# Altium footprint library BASIC Library.PCBLIB: 464 footprints (part 10 of 30)
Each footprint in its own frame and in the unit in brackets; x right, y up, seen from the top. Pads: shape width x height; smd on the part's side, far side on the other; paste and mask are expansions set on the pad; w line width, h text height; cw(c..) or ccw(c..) is an arc to the next point about the centre after c.
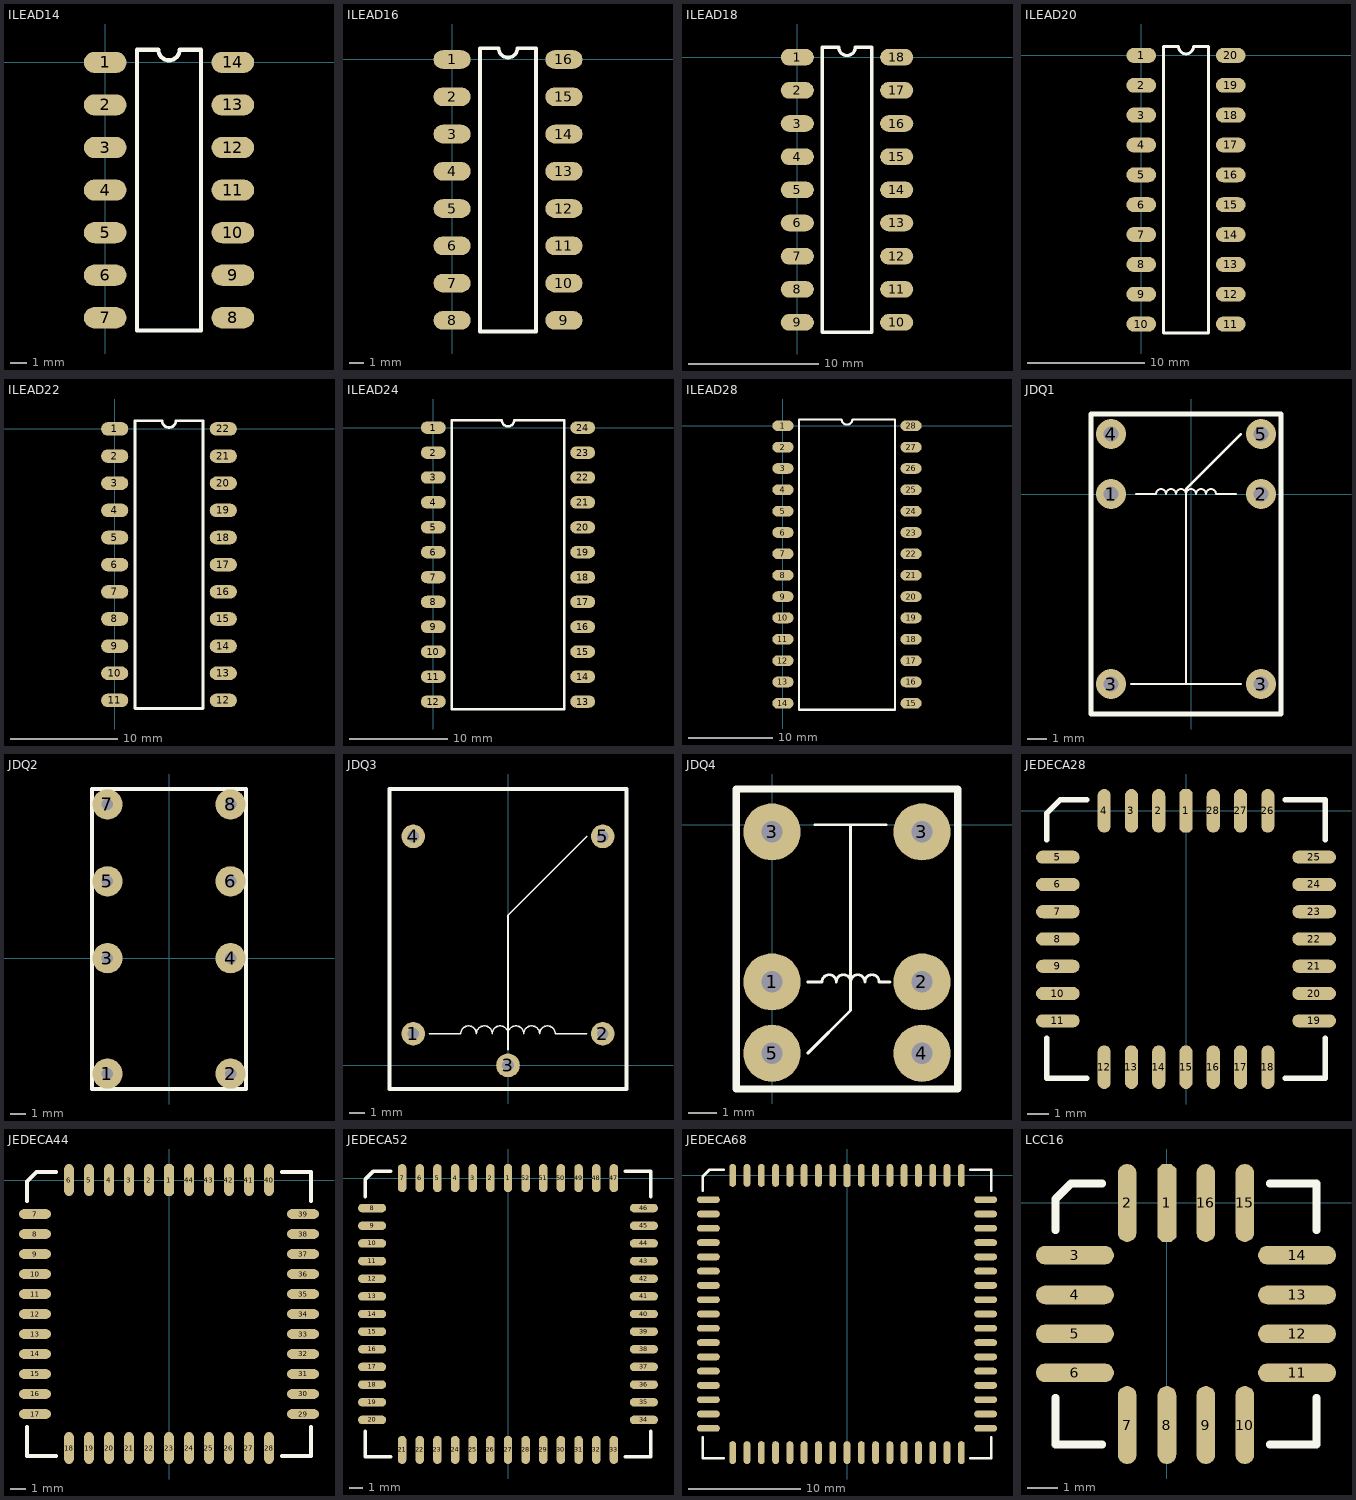
[diagram p9: the footprints below, top view; thin cyan lines are the x and y axes]

## ILEAD14 [mil]
pads (14):
  oval 100x50 smd: 1(0,0) 2(0,-100) 3(0,-200) 4(0,-300) 5(0,-400) 6(0,-500) 7(0,-600) 8(300,-600) 9(300,-500) 10(300,-400) 11(300,-300) 12(300,-200) 13(300,-100) 14(300,0)
TopOverlay:
  lines w10: 75,-630 225,-630 225,30 175,30 cw(c150,30) 125,30 75,30 75,-630

## ILEAD16 [mil]
pads (16):
  oval 100x50 smd: 1(0,0) 2(0,-100) 3(0,-200) 4(0,-300) 5(0,-400) 6(0,-500) 7(0,-600) 8(0,-700) 9(300,-700) 10(300,-600) 11(300,-500) 12(300,-400) 13(300,-300) 14(300,-200) 15(300,-100) 16(300,0)
TopOverlay:
  lines w10: 75,-730 75,30 125,30 ccw(c150,30) 175,30 225,30 225,-730 75,-730

## ILEAD18 [mil]
pads (18):
  oval 100x50 smd: 1(0,0) 2(0,-100) 3(0,-200) 4(0,-300) 5(0,-400) 6(0,-500) 7(0,-600) 8(0,-700) 9(0,-800) 10(300,-800) 11(300,-700) 12(300,-600) 13(300,-500) 14(300,-400) 15(300,-300) 16(300,-200) 17(300,-100) 18(300,0)
TopOverlay:
  lines w10: 75,-830 75,30 125,30 ccw(c150,30) 175,30 225,30 225,-830 75,-830

## ILEAD20 [mil]
pads (20):
  oval 100x50 smd: 1(0,0) 2(0,-100) 3(0,-200) 4(0,-300) 5(0,-400) 6(0,-500) 7(0,-600) 8(0,-700) 9(0,-800) 10(0,-900) 11(300,-900) 12(300,-800) 13(300,-700) 14(300,-600) 15(300,-500) 16(300,-400) 17(300,-300) 18(300,-200) 19(300,-100) 20(300,0)
TopOverlay:
  lines w10: 75,-930 225,-930 225,30 175,30 cw(c150,30) 125,30 75,30 75,-930

## ILEAD22 [mil]
pads (22):
  oval 100x50 smd: 1(0,0) 2(0,-100) 3(0,-200) 4(0,-300) 5(0,-400) 6(0,-500) 7(0,-600) 8(0,-700) 9(0,-800) 10(0,-900) 11(0,-1000) 12(400,-1000) 13(400,-900) 14(400,-800) 15(400,-700) 16(400,-600) 17(400,-500) 18(400,-400) 19(400,-300) 20(400,-200) 21(400,-100) 22(400,0)
TopOverlay:
  lines w10: 75,-1030 325,-1030 325,30 225,30 cw(c200,30) 175,30 75,30 75,-1030

## ILEAD24 [mil]
pads (24):
  oval 100x50 smd: 1(0,0) 2(0,-100) 3(0,-200) 4(0,-300) 5(0,-400) 6(0,-500) 7(0,-600) 8(0,-700) 9(0,-800) 10(0,-900) 11(0,-1000) 12(0,-1100) 13(600,-1100) 14(600,-1000) 15(600,-900) 16(600,-800) 17(600,-700) 18(600,-600) 19(600,-500) 20(600,-400) 21(600,-300) 22(600,-200) 23(600,-100) 24(600,0)
TopOverlay:
  lines w10: 75,-1130 525,-1130 525,30 325,30 cw(c300,30) 275,30 75,30 75,-1130

## ILEAD28 [mil]
pads (28):
  oval 100x50 smd: 1(0,0) 2(0,-100) 3(0,-200) 4(0,-300) 5(0,-400) 6(0,-500) 7(0,-600) 8(0,-700) 9(0,-800) 10(0,-900) 11(0,-1000) 12(0,-1100) 13(0,-1200) 14(0,-1300) 15(600,-1300) 16(600,-1200) 17(600,-1100) 18(600,-1000) 19(600,-900) 20(600,-800) 21(600,-700) 22(600,-600) 23(600,-500) 24(600,-400) 25(600,-300) 26(600,-200) 27(600,-100) 28(600,0)
TopOverlay:
  lines w10: 75,-1330 75,30 275,30 ccw(c300,30) 325,30 525,30 525,-1330 75,-1330

## JDQ1 [mil]
pads (6):
  round 60 hole 30: 1(-160,0) 2(140,0) 3(-160,-380) 3(140,-380) 4(-160,120) 5(140,120)
TopOverlay:
  lines w4: -120,-380 100,-380 ; -110,0 -70,0 cw(c-60,0) -50,0 cw(c-40,0) -30,0 cw(c-20,0) -10,0 cw(c0,0) 10,0 cw(c20,0) 30,0 cw(c40,0) 50,0 90,0 ; -10,-380 -10,10 100,120
  lines w10: -200,-440 180,-440 180,-220 180,160 -200,160 -200,-440

## JDQ2 [mil]
pads (8):
  round 78.74 hole 30: 1(-160,-300) 2(160,-300) 3(-160,0) 4(160,0) 5(-160,200) 6(160,200) 7(-160,400) 8(160,400)
TopOverlay:
  lines w10: -200,-340 200,-340 200,440 -200,440 -200,-340

## JDQ3 [mil]
pads (5):
  round 60 hole 30: 1(-240,80) 2(240,80) 3(0,0) 4(-240,580) 5(240,580)
TopOverlay:
  lines w4: -200,80 -120,80 cw(c-100,80) -80,80 cw(c-60,80) -40,80 cw(c-20,80) 0,80 cw(c20,80) 40,80 cw(c60,80) 80,80 cw(c100,80) 120,80 200,80 ; 0,120 0,40 0,380 200,580
  lines w10: -300,-60 -300,700 300,700 300,-60 -300,-60

## JDQ4 [mil]
pads (6):
  round 80 hole 30: 1(0,-220) 2(210,-220) 3(0,-10) 3(210,-10) 4(210,-320) 5(0,-320)
TopOverlay:
  lines w4: 50,-320 110,-260 110,-230 110,0 ; 50,-220 70,-220 cw(c80,-220) 90,-220 cw(c100,-220) 110,-220 cw(c120,-220) 130,-220 cw(c140,-220) 150,-220 165,-220 ; 60,0 160,0
  lines w10: -50,-370 260,-370 260,50 -50,50 -50,-370

## JEDECA28 [mil]
pads (28):
  oct 24x80 smd: 1(0,0)
  oval 24x80 smd: 2(-50,0) 3(-100,0) 4(-150,0) 12(-150,-470) 13(-100,-470) 14(-50,-470) 15(0,-470) 16(50,-470) 17(100,-470) 18(150,-470) 26(150,0) 27(100,0) 28(50,0)
  oval 80x24 smd: 5(-235,-85) 6(-235,-135) 7(-235,-185) 8(-235,-235) 9(-235,-285) 10(-235,-335) 11(-235,-385) 19(235,-385) 20(235,-335) 21(235,-285) 22(235,-235) 23(235,-185) 24(235,-135) 25(235,-85)
TopOverlay:
  lines w10: -255,-417 -255,-490 -182,-490 ; -255,-53 -255,-4 -231,20 -182,20 ; 182,-490 255,-490 255,-417 ; 182,20 255,20 255,-53

## JEDECA44 [mil]
pads (44):
  oct 24x80 smd: 1(0,0)
  oval 24x80 smd: 2(-50,0) 3(-100,0) 4(-150,0) 5(-200,0) 6(-250,0) 18(-250,-670) 19(-200,-670) 20(-150,-670) 21(-100,-670) 22(-50,-670) 23(0,-670) 24(50,-670) 25(100,-670) 26(150,-670) 27(200,-670) 28(250,-670) 40(250,0) 41(200,0) 42(150,0) 43(100,0) 44(50,0)
  oval 80x24 smd: 7(-335,-85) 8(-335,-135) 9(-335,-185) 10(-335,-235) 11(-335,-285) 12(-335,-335) 13(-335,-385) 14(-335,-435) 15(-335,-485) 16(-335,-535) 17(-335,-585) 29(335,-585) 30(335,-535) 31(335,-485) 32(335,-435) 33(335,-385) 34(335,-335) 35(335,-285) 36(335,-235) 37(335,-185) 38(335,-135) 39(335,-85)
TopOverlay:
  lines w10: -355,-617 -355,-690 -282,-690 ; -355,-53 -355,-4 -331,20 -282,20 ; 282,-690 355,-690 355,-617 ; 282,20 355,20 355,-53

## JEDECA52 [mil]
pads (52):
  oct 24x80 smd: 1(0,0)
  oval 24x80 smd: 2(-50,0) 3(-100,0) 4(-150,0) 5(-200,0) 6(-250,0) 7(-300,0) 21(-300,-770) 22(-250,-770) 23(-200,-770) 24(-150,-770) 25(-100,-770) 26(-50,-770) 27(0,-770) 28(50,-770) 29(100,-770) 30(150,-770) 31(200,-770) 32(250,-770) 33(300,-770) 47(300,0) 48(250,0) 49(200,0) 50(150,0) 51(100,0) 52(50,0)
  oval 80x24 smd: 8(-385,-85) 9(-385,-135) 10(-385,-185) 11(-385,-235) 12(-385,-285) 13(-385,-335) 14(-385,-385) 15(-385,-435) 16(-385,-485) 17(-385,-535) 18(-385,-585) 19(-385,-635) 20(-385,-685) 34(385,-685) 35(385,-635) 36(385,-585) 37(385,-535) 38(385,-485) 39(385,-435) 40(385,-385) 41(385,-335) 42(385,-285) 43(385,-235) 44(385,-185) 45(385,-135) 46(385,-85)
TopOverlay:
  lines w10: -405,-717 -405,-790 -332,-790 ; -405,-53 -405,-4 -381,20 -332,20 ; 332,-790 405,-790 405,-717 ; 332,20 405,20 405,-53

## JEDECA68 [mil]
pads (68):
  oct 24x80 smd: 1(0,0)
  oval 24x80 smd: 2(-50,0) 3(-100,0) 4(-150,0) 5(-200,0) 6(-250,0) 7(-300,0) 8(-350,0) 9(-400,0) 27(-400,-970) 28(-350,-970) 29(-300,-970) 30(-250,-970) 31(-200,-970) 32(-150,-970) 33(-100,-970) 34(-50,-970) 35(0,-970) 36(50,-970) 37(100,-970) 38(150,-970) 39(200,-970) 40(250,-970) 41(300,-970) 42(350,-970) 43(400,-970) 61(400,0) 62(350,0) 63(300,0) 64(250,0) 65(200,0) 66(150,0) 67(100,0) 68(50,0)
  oval 80x24 smd: 10(-485,-85) 11(-485,-135) 12(-485,-185) 13(-485,-235) 14(-485,-285) 15(-485,-335) 16(-485,-385) 17(-485,-435) 18(-485,-485) 19(-485,-535) 20(-485,-585) 21(-485,-635) 22(-485,-685) 23(-485,-735) 24(-485,-785) 25(-485,-835) 26(-485,-885) 44(485,-885) 45(485,-835) 46(485,-785) 47(485,-735) 48(485,-685) 49(485,-635) 50(485,-585) 51(485,-535) 52(485,-485) 53(485,-435) 54(485,-385) 55(485,-335) 56(485,-285) 57(485,-235) 58(485,-185) 59(485,-135) 60(485,-85)
TopOverlay:
  lines w10: -505,-917 -505,-990 -432,-990 ; -505,-53 -505,-4 -481,20 -432,20 ; 432,-990 505,-990 505,-917 ; 432,20 505,20 505,-53

## LCC16 [mil]
pads (16):
  oct 24x100 smd: 1(0,0)
  oval 24x100 smd: 2(-51,0) 7(-51,-285) 8(0,-285) 9(50,-285) 10(100,-285) 15(100,0) 16(50,0)
  oval 100x24 smd: 3(-118,-67) 4(-118,-118) 5(-118,-168) 6(-118,-218) 11(167,-218) 12(167,-168) 13(167,-118) 14(167,-67)
TopOverlay:
  lines w10: -143,-250 -143,-310 -83,-310 ; -143,-35 -143,5 -123,25 -83,25 ; 132,-310 192,-310 192,-250 ; 132,25 192,25 192,-35